# EAGLE library part AS-ITM-00123 (library tinycircuits)
CONN TERM BLK 12POS 2.54MM 4/A
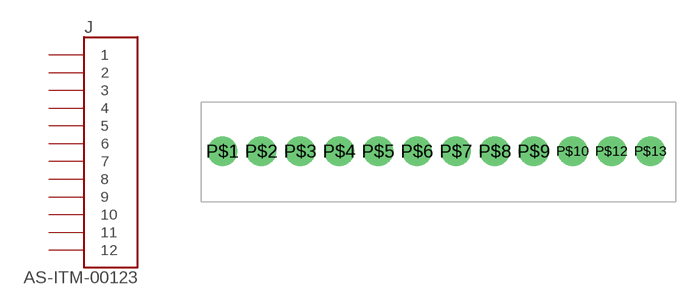
[diagram p50: symbol with the pads of 12POS_2.54MM_TERMBLOCK; footprint 12POS_2.54MM_TERMBLOCK]

Designator prefix J

## AS-ITM-00123 (PARTNO: AS-ITM-00123; VALUE: ESDM12100)  [12POS_2.54MM_TERMBLOCK]
P$1  1
P$2  2
P$3  3
P$4  4
P$5  5
P$6  6
P$7  7
P$8  8
P$9  9
P$10  10
P$12  11
P$13  12

## Footprint 12POS_2.54MM_TERMBLOCK (pad centres in mm)
drill 1.3: P$1 -13.97,0; P$2 -11.43,0; P$3 -8.89,0; P$4 -6.35,0; P$5 -3.81,0; P$6 -1.27,0; P$7 1.27,0; P$8 3.81,0; P$9 6.35,0; P$10 8.89,0; P$12 11.43,0; P$13 13.97,0